# Altium footprint library CONN JACK MONO.PcbLib: 1 footprints
Each footprint in its own frame and in the unit in brackets; x right, y up, seen from the top. Pads: shape width x height; smd on the part's side, far side on the other; paste and mask are expansions set on the pad; w line width, h text height; cw(c..) or ccw(c..) is an arc to the next point about the centre after c.
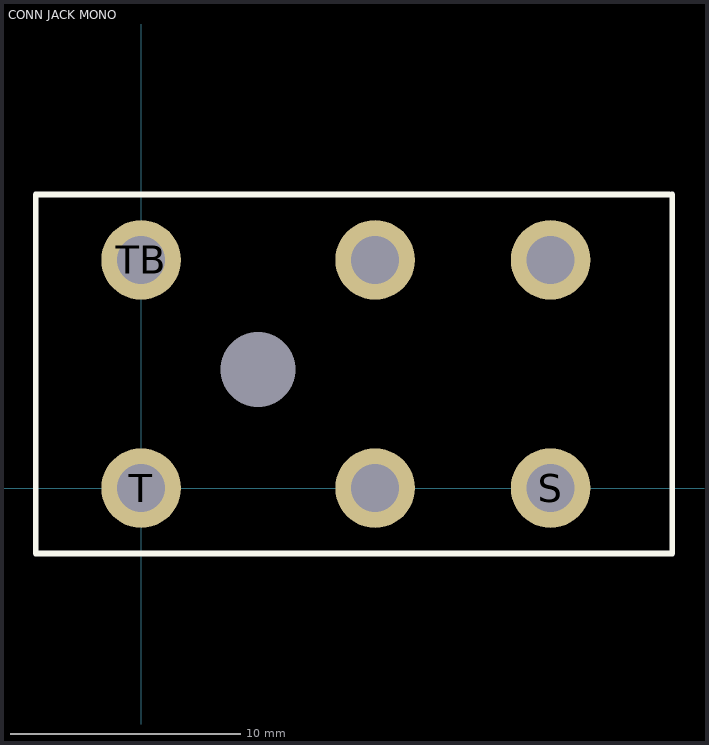
[diagram p0: the footprint, top view; thin cyan lines are the x and y axes]

## CONN JACK MONO [mil] "CONN JACK MONO 6.35MM R/A"
pads (7):
  round 136 hole 82: S(700,0) T(0,0) TB(0,390) ""(400,0) ""(400,390) ""(700,390)
  round 0 hole 128 mask+10: ""(200,203)
Top Overlay:
  lines w10: 903,502 0,502 -180,502 -180,-112 0,-112 908,-112 908,502